# Altium footprint library Inductor_DO5022P-473MLB.PcbLib: 1 footprints
Each footprint in its own frame and in the unit in brackets; x right, y up, seen from the top. Pads: shape width x height; smd on the part's side, far side on the other; paste and mask are expansions set on the pad; w line width, h text height; cw(c..) or ccw(c..) is an arc to the next point about the centre after c.
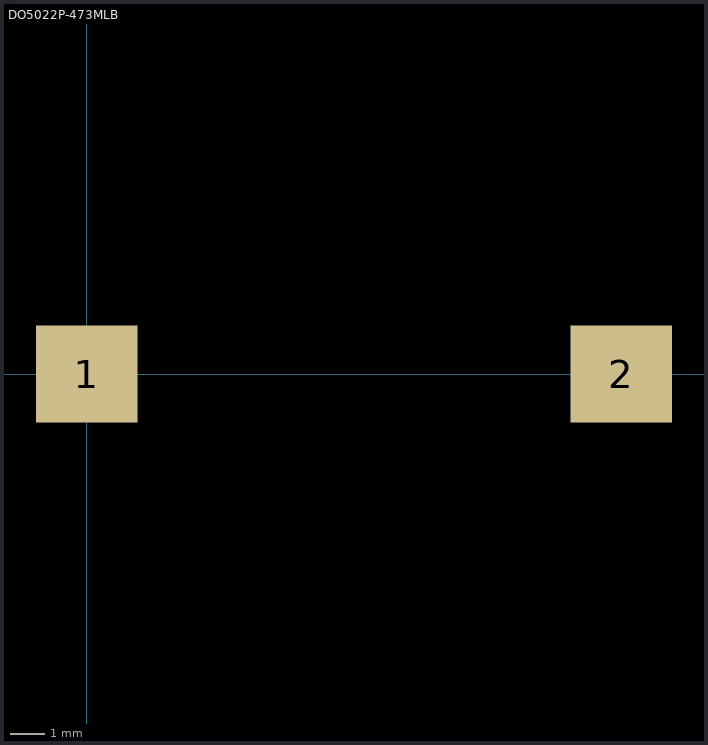
[diagram p0: the footprint, top view; thin cyan lines are the x and y axes]

## DO5022P-473MLB [mil] "Inductor DO5022P-473MLB"
height 279.92
pads (2):
  rect 115x110 smd: 1(0,0) 2(605,0)
3D body: height 280, standoff 0, extent 52.5,-250 552.5,250